# Altium schematic symbol library REF5020IDR.SchLib: 1 symbol
Pins are listed as number, name and electrical type; pins without a type are passive.

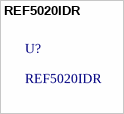
[diagram p0: symbol REF5020IDR]

## REF5020IDR
designator U?